# Altium footprint library Hirose-RF_Conn.PcbLib: 2 footprints
Each footprint in its own frame and in the unit in brackets; x right, y up, seen from the top. Pads: shape width x height; smd on the part's side, far side on the other; paste and mask are expansions set on the pad; w line width, h text height; cw(c..) or ccw(c..) is an arc to the next point about the centre after c.
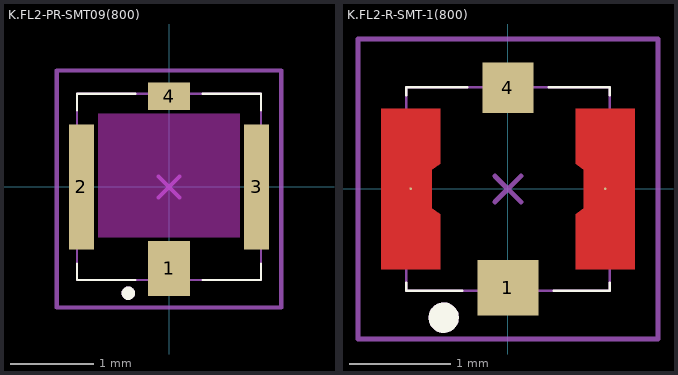
[diagram p0: the footprints below, top view; thin cyan lines are the x and y axes]

## K.FL2-PR-SMT09(800) [mm]
pads (4):
  rect 0.5x0.66 smd paste+0 mask+0.05: 1(0,-0.977)
  rect 0.3x1.5 smd paste+0 mask+0.05: 2(-1.05,0) 3(1.05,0)
  rect 0.5x0.33 smd paste+0 mask+0.05: 4(0,1.088)
Top Overlay:
  circle w0.1: c-0.488,-1.275 r0.03
  lines w0.025: -1.105,-0.918 -1.105,-1.118 -0.405,-1.118 ; -1.105,0.918 -1.105,1.118 -0.405,1.118 ; 0.405,-1.118 1.105,-1.118 1.105,-0.918 ; 0.405,1.118 1.105,1.118 1.105,0.918
Bottom Overlay:
  circle w0.1: c-0.488,-1.275 r0.03
Keep-Out Layer:
  rectangle: -0.85,-0.609 0.85,0.88
Bottom 3D Body:
  circle w0.1: c-0.488,-1.275 r0.03
Top Assembly:
  lines w0.025: -1.105,-1.118 1.105,-1.118 1.105,1.118 -1.105,1.118 -1.105,-1.118
  text ".Designator" at -3.434,-0.345 h1.52
Top Courtyard:
  lines w0.05: -0.127,-0.127 0.127,0.127 ; -0.127,0.127 0.127,-0.127 ; -1.347,-1.447 -1.347,1.397 1.347,1.397 1.347,-1.447 -1.347,-1.447
3D body "K.FL2-PR-SMT09(800)_CL0480-0452-0-00_3DDrawing_STEP_190125_3D_MODELING_K.FL2-PR-SMT09_stp.stp": height 0.45, standoff -0.16, extent -1.095,-1.118 1.105,1.122

## K.FL2-R-SMT-1(800) [mm]
pads (4):
  rect 0.6x0.55 smd paste-2539.97 mask+0.05: 1(0,-0.975)
  round 0.025 smd paste-2539.97 mask+0.05: 2(-0.96,0.003) 3(0.96,0.003)
  rect 0.5x0.5 smd paste-2539.97 mask+0.05: 4(0,1)
Top Layer:
  region: 0.67,-0.79 0.67,-0.25 0.75,-0.19 0.75,0.19 0.67,0.25 0.67,0.79 1.25,0.79 1.25,-0.79
  region: -1.25,-0.79 -1.25,0.79 -0.67,0.79 -0.67,0.25 -0.75,0.19 -0.75,-0.19 -0.67,-0.25 -0.67,-0.79
Top Overlay:
  circle w0.1: c-0.635,-1.27 r0.1
  region: -0.735,-1.27 -0.735,-1.29 -0.72,-1.327 -0.692,-1.355 -0.655,-1.37 -0.635,-1.37 -0.615,-1.37 -0.578,-1.355 -0.55,-1.327 -0.535,-1.29 -0.535,-1.27 -0.535,-1.25 -0.55,-1.213 -0.578,-1.185 -0.615,-1.17 -0.635,-1.17 -0.655,-1.17 -0.692,-1.185 -0.72,-1.213 -0.735,-1.25
  lines w0.025: -1.003,-0.923 -1.003,-1.003 -0.453,-1.003 ; -1.003,0.923 -1.003,1.003 -0.403,1.003 ; 0.403,1.003 1.003,1.003 1.003,0.923 ; 0.453,-1.003 1.003,-1.003 1.003,-0.923
Bottom Overlay:
  circle w0.1: c-0.635,-1.27 r0.1
Top Paste:
  rectangle: -0.18,-1.2 0.18,-0.84
  rectangle: -0.19,0.82 0.19,1.2
  rectangle: -1.25,-0.45 -0.75,0.45
  rectangle: 0.75,-0.45 1.25,0.45
Top Assembly:
  circle w0.1: c-0.635,-1.27 r0.1
  lines w0.025: -1.003,-1.003 -1.003,1.003 1.003,1.003 1.003,-1.003 -1.003,-1.003
  text ".Designator" at -3.434,-0.345 h1.52
Top Courtyard:
  lines w0.05: -0.127,-0.127 0.127,0.127 ; -0.127,0.127 0.127,-0.127 ; -1.48,-1.48 -1.48,1.48 1.48,1.48 1.48,-1.48 -1.48,-1.48
3D body "K.FL2-R-SMT-1(800)_CL0480-0442-0-00_3DDrawing_STEP_K.FL2-R-SMT(800)_4800442000_3D_STEP.stp": height 0.61, standoff 0.01, extent -0.997,-0.997 1.003,1.003